# Altium footprint library 开发板设计库封装.PcbLib: 59 footprints (part 4 of 4)
Each footprint in its own frame and in the unit in brackets; x right, y up, seen from the top. Pads: shape width x height; smd on the part's side, far side on the other; paste and mask are expansions set on the pad; w line width, h text height; cw(c..) or ccw(c..) is an arc to the next point about the centre after c.
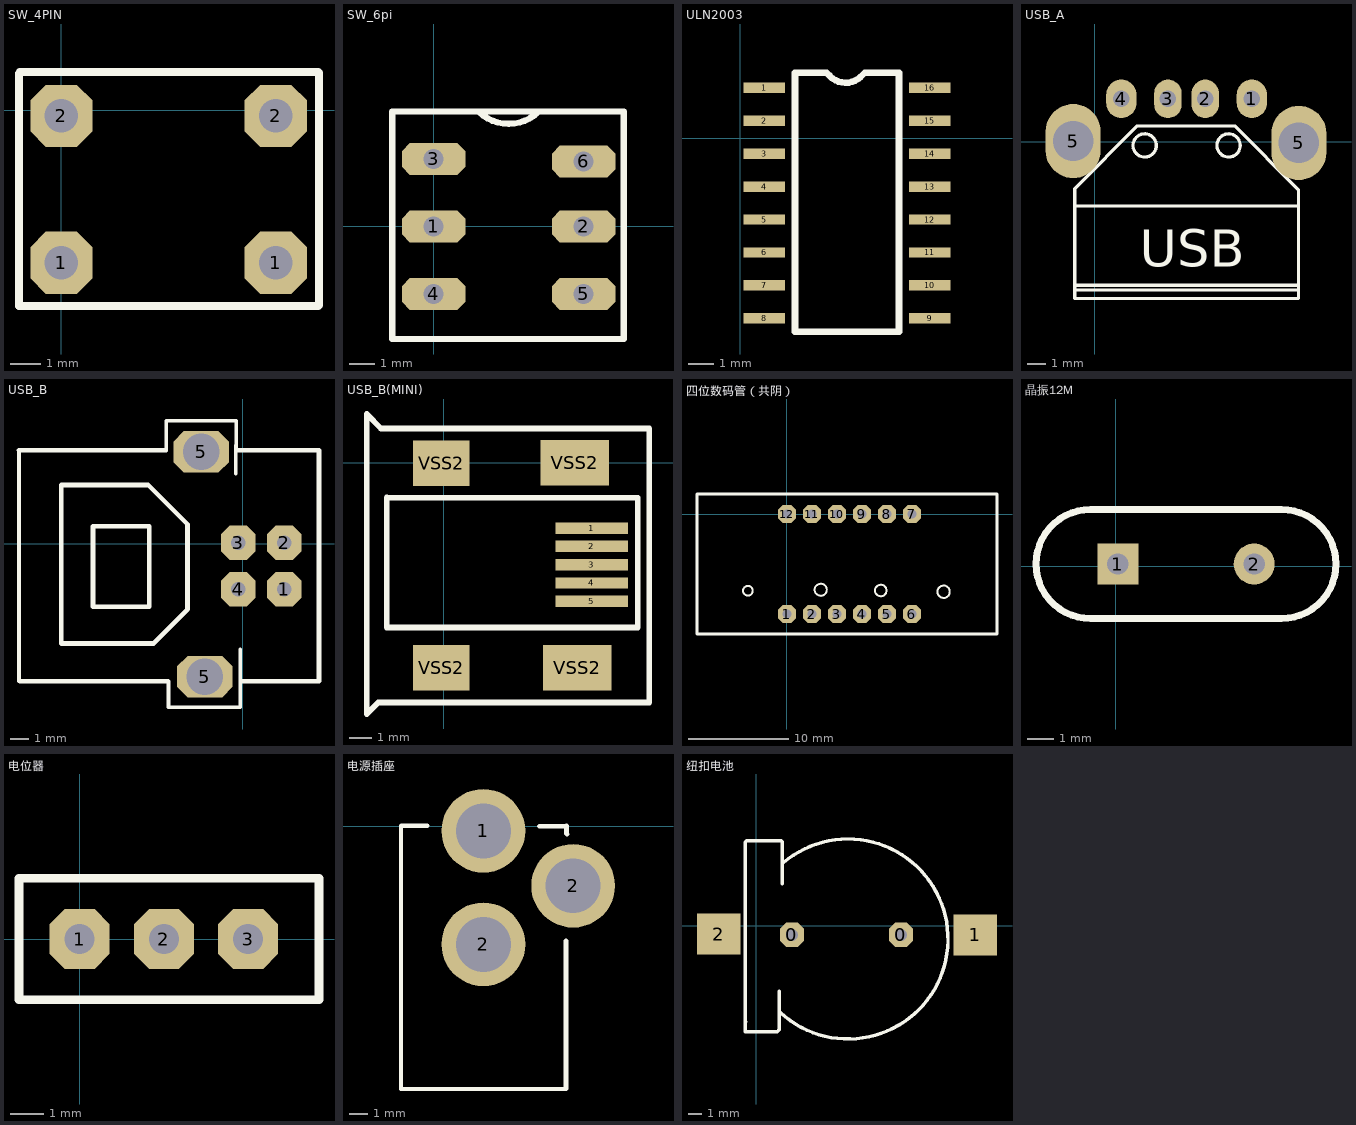
[diagram p3: the footprints below, top view; thin cyan lines are the x and y axes]

## SW_4PIN [mil]
pads (4):
  oct 80x80 hole 43.31: 1(0.35,-196.3) 1(275.94,-196.3) 2(0.35,-7.32) 2(275.94,-7.32)
Top Overlay:
  lines w10: -54.13,-251.97 -54.13,47.24 ; -53.15,-251.97 330.71,-251.97 ; -53.15,49.21 330.71,49.21 ; 331.69,-250.98 331.69,48.23

## SW_6pi [mm]
pads (6):
  oct 2.54x1.27 hole 0.8: 1(0,0) 2(6,0) 3(0,2.7) 4(0,-2.7) 5(6,-2.7) 6(6,2.6)
Top Overlay:
  lines w0.254: 1.8,4.6 ccw(c3,5.8) 4.2,4.6 ; -1.65,-4.5 -1.65,4.6 7.6,4.6 7.6,-4.5 -1.65,-4.5

## ULN2003 [mm]
pads (16):
  rect 1.6x0.4 smd: 1(0.925,1.953) 2(0.925,0.683) 3(0.925,-0.587) 4(0.925,-1.857) 5(0.925,-3.127) 6(0.925,-4.397) 7(0.925,-5.667) 8(0.925,-6.937) 9(7.326,-6.937) 10(7.326,-5.667) 11(7.326,-4.397) 12(7.326,-3.127) 13(7.326,-1.857) 14(7.326,-0.587) 15(7.326,0.683) 16(7.326,1.953)
Top Overlay:
  lines w0.254: 6.019,-7.462 2.119,-7.462 2.119,2.538 3.338,2.538 3.465,2.411 ccw(c4.075,2.995) 4.659,2.385 4.811,2.538 6.132,2.538 6.132,-7.462

## USB_A [mm]
pads (6):
  oval 1.651x2.1 hole 0.9: 1(8.564,2.35) 4(1.452,2.35)
  oval 1.5x2.1 hole 0.9: 2(6.024,2.35) 3(3.992,2.35)
  oval 3x4.048 hole 2.2: 5(-1.175,0.05) 5(11.125,-0.05)
Top Overlay:
  circle w0.178: c7.294,-0.19 r0.635
  circle w0.178: c2.722,-0.19 r0.635
  lines w0.178: -1.088,-8.064 11.104,-8.064 ; -1.088,-7.81 11.104,-7.81 ; -1.088,-3.492 11.104,-3.492 ; -1.088,-8.525 11.104,-8.525 11.104,-2.604 7.625,0.875 2.325,0.875 -1.088,-2.538 -1.088,-8.525
  text "USB" at 2.468,-6.794 h2.03

## USB_B [mm]
pads (6):
  oct 1.905x1.905 hole 0.8 paste+0: 1(2.278,-2.506) 2(2.278,0.034) 3(-0.262,0.034) 4(-0.262,-2.506)
  oct 3.048x2.286 hole 2: 5(-2.3,5.05) 5(-2.1,-7.325)
Top Overlay:
  lines w0.2: -12.325,5.125 -12.325,-7.575 -12.275,-7.575 ; -4.225,5.1 -4.225,6.75 -0.4,6.75 ; -4.1,-7.6 -4.1,-9 ; -0.5,-9 -0.15,-9 ; -0.4,3.85 -0.4,5.4 ; -0.375,5.125 -0.375,6.75 ; -0.3,-9 -4.1,-9 ; -0.15,-7.725 -0.15,-5.825 ; -0.15,-7.6 -0.15,-9 ; -4.1,-9 -4.1,-9 ; -0.15,-9 -0.15,-9
  lines w0.254: -12.325,5.125 -4.5,5.125 ; -12.275,-7.575 -4.125,-7.575 ; -8.25,0.95 -8.25,-3.475 -5.15,-3.475 -5.15,0.95 -8.2,0.95 ; -4.925,-5.5 -10,-5.5 -10,3.225 -5.225,3.225 -3.05,1.05 -3.05,-3.625 -4.9,-5.475 ; -4.775,5.125 -4.25,5.125 ; -0.375,5.125 4.183,5.125 4.183,-7.575 -0.125,-7.575

## USB_B(MINI) [mm]
pads (9):
  rect 3.2x0.5 smd paste+0 mask+0: 1(6.522,-2.874) 2(6.522,-3.674) 3(6.522,-4.483) 4(6.522,-5.283) 5(6.522,-6.083)
  rect 2.5x2 smd: VSS2(-0.096,-9.021) VSS2(-0.096,-0.005)
  rect 3x2 smd: VSS2(5.775,0) VSS2(5.887,-9.021)
Top Overlay:
  lines w0.254: -3.384,-10.799 -3.384,2.155 -2.749,1.52 -2.114,1.52 9.062,1.52 9.062,-10.545 -2.495,-10.545 ; -3.384,-10.418 -3.384,-11.053 -2.876,-10.545 -2.241,-10.545 ; -2.495,-7.243 8.554,-7.243 8.554,-1.532 -2.495,-1.523 -2.495,-4.614 -2.495,-7.243

## 四位数码管（共阴） [mil]
pads (12):
  oct 70x70 hole 35: 1(0,-393.7) 2(98.43,-393.7) 3(196.85,-393.7) 4(295.28,-393.7) 5(393.7,-393.7) 6(492.13,-393.7) 7(492.13,0) 8(393.7,0) 9(295.28,0) 10(196.85,0) 11(98.43,0) 12(0,0)
Top Overlay:
  circle w7.87: c-153.95,-302.17 r19.11
  circle w7.87: c132.71,-298.23 r23.79
  circle w7.87: c369.01,-301.18 r22.72
  circle w7.87: c616.44,-306.1 r24.31
  lines w10: -354.33,-472.44 -354.33,78.74 826.77,78.74 826.77,-472.44 -354.33,-472.44

## 晶振12M [mm]
pads (2):
  rect 1.524x1.524 hole 0.8: 1(0.07,0.086)
  round 1.524 hole 0.8: 2(5.15,0.086)
Top Overlay:
  lines w0.254: -0.946,-1.946 cw(c-0.946,0.086) -0.946,2.118 6.166,2.118 cw(c6.166,0.086) 6.166,-1.946 -0.946,-1.946

## 电位器 [mil]
pads (3):
  oct 70x70 hole 35: 1(0,0) 2(98.43,0) 3(196.85,0)
Top Overlay:
  lines w10: -70.87,-70.87 -70.87,70.87 279.53,70.87 279.53,-70.87 -70.87,-70.87

## 电源插座 [mm]
pads (3):
  round 4.572 hole 3: 1(-14.24,-0.249) 2(-14.24,-6.449) 2(-9.34,-3.249)
Top Overlay:
  lines w0.2: -18.74,-0.049 -18.74,-14.349 -9.74,-14.349
  lines w0.254: -18.725,0.025 -17.3,0.025 ; -11.175,0 -9.74,0 ; -9.725,-14.325 -9.725,-6.25 ; -9.7,0.025 -9.7,-0.4 -9.675,-0.425

## 纽扣电池 [mm]
pads (4):
  oct 1.778x1.778 hole 0.889: 0(2.625,-0.675) 0(10.6,-0.675)
  rect 3.2x3 smd: 1(16.025,-0.675) 2(-2.725,-0.625)
Top Overlay:
  lines w0.254: -0.8,-6.55 -0.8,-7.75 1.55,-7.75 1.7,-7.6 1.7,-6.975 ; -0.75,-7.025 -0.8,-6.975 -0.8,6.1 -0.7,6.2 1.85,6.2 1.9,6.15 1.9,3.05 ; 1.706,-7.075 1.706,-4.811 ; 1.771,-6.36 ccw(c6.725,-0.975) 1.993,4.606 ; 1.908,5.325 1.916,5.316 1.916,3.31